# Altium schematic symbol library PASSIVE.SchLib: 19 symbols
Pins are listed as number, name and electrical type; pins without a type are passive.

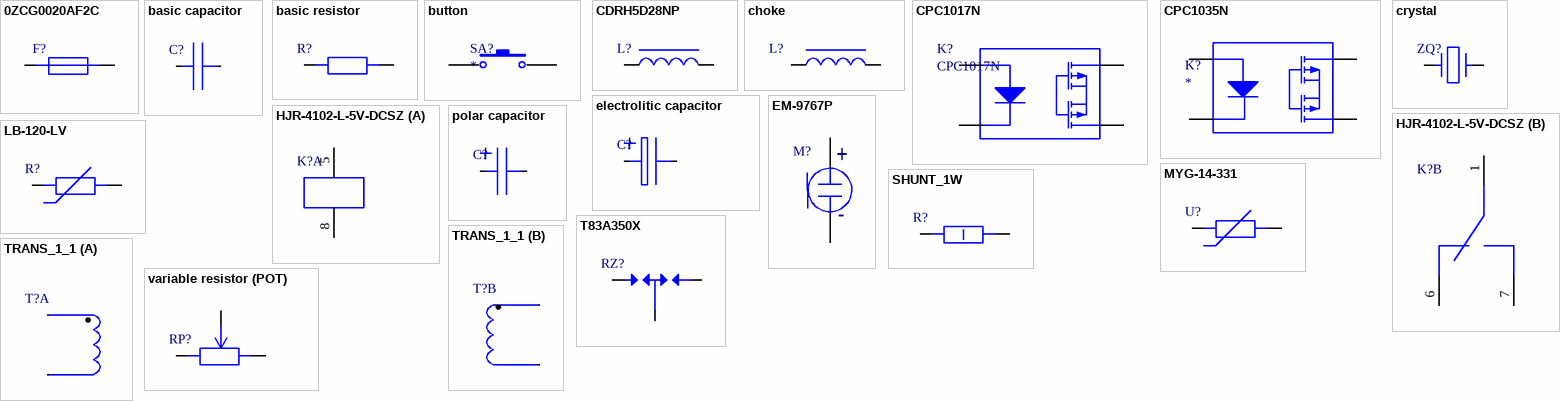
[diagram p0: symbols 0ZCG0020AF2C to variable resistor (POT)]

## 0ZCG0020AF2C
designator F?
fuse 200mA
footprint FUSE-1812
pins: 1, 2

## basic capacitor
designator C?
footprint b32529
footprint CAP_0805_MD
footprint CAP_0805_HD (Chip Capacitor, 2-Leads, Body 2,10x1,30mm, IPC High Density)
footprint CAPC1206-MD (Chip Capacitor, 2-Leads, Body 3,20x1,60mm, IPC Medium Density)
footprint CAP_0603_MD
pins: 1, 2

## basic resistor
designator R?
footprint RES_2512_MD (Chip Resistor, 2-Leads, Body 6,35x3,20mm, IPC Medium Density)
footprint RES_1206_MD
footprint RES_0805_MD
footprint RES_0603_MD
pins: 1, 2

## button
designator SA?
footprint SW4_5x4_5x5
pins: 1, 2

## CDRH5D28NP
designator L?  (value not drawn)
Val: CDRH5D28NP
footprint CDRH5D
pins: 1, 2

## choke
designator L?  (value not drawn)
pins: 1, 2

## CPC1017N
designator K?
Name: CPC1017N
footprint SOP254P600X218-4L (SOP, 4-Leads, Body 4,00x3,75mm, Pitch 2,54mm, IPC High Density)
pins: 1, 2, 3, 4

## CPC1035N
designator K?
footprint SOP254P600X218-4L (SOP, 4-Leads, Body 4,00x3,75mm, Pitch 2,54mm, IPC High Density)
pins: 1, 2, 3, 4

## crystal
designator ZQ?  (value not drawn)
footprint HC-49SM
footprint NX3225
pins: 1, 2

## electrolitic capacitor
designator C?  (value not drawn)
footprint ECAP_63-54 (Aluminum Electrolytic Capacitor, Body 7,80x6,60x7,70mm, IPC Medium Density)
footprint ECAP_10-10 (Aluminum Electrolytic Capacitor, Body 10,30x10,30x10,50mm, IPC Medium Density)
footprint ECAP_4-54 (Aluminum Electrolytic Capacitor, Body 5,50x4,30x6,30mm, IPC High Density)
footprint A-3216 (kemet A)
footprint B-3528 (kemet B)
pins: 1, 2

## EM-9767P
designator M?  (value not drawn)
footprint EM-9767P
pins: 1, 2
text: +; -

## HJR-4102-L-5V-DCSZ
designator K?
TIANBO GANGLIAN ELECTRONICS relay
footprint HJR-4102-L-XXV
part A pins: 5, 8
part B pins: 1, 6, 7

## LB-120-LV
designator R?
footprint MYG-14
pins: 1, 2

## MYG-14-331
designator U?
footprint MYG-14
pins: 1, 2

## polar capacitor
designator C?  (value not drawn)
footprint A-3216 (kemet A)
footprint B-3528 (kemet B)
footprint ECAP_4-54 (Aluminum Electrolytic Capacitor, Body 5,50x4,30x6,30mm, IPC High Density)
pins: 1, 2

## SHUNT_1W
designator R?, comment 2512 shunt  (value not drawn)
footprint RESC0805X06L (Chip Resistor, 2-Leads, Body 2,10x1,30mm, IPC High Density)
pins: 1, 2

## T83A350X
designator RZ?  (value not drawn)
footprint T83
pins: 1, 2, 3

## TRANS_1_1
designator T?, comment TRANS_1_1_1  (value not drawn)
footprint B64291A1004X000
part A pins: 1, 2
part B pins: 3, 4
part A text: .
part B text: .

## variable resistor (POT)
designator RP?
footprint 3329H-DK9-RC
pins: 1, 2, 3